# EAGLE library part NE555 (library andereBauteile)
NE555 Timerbaustein
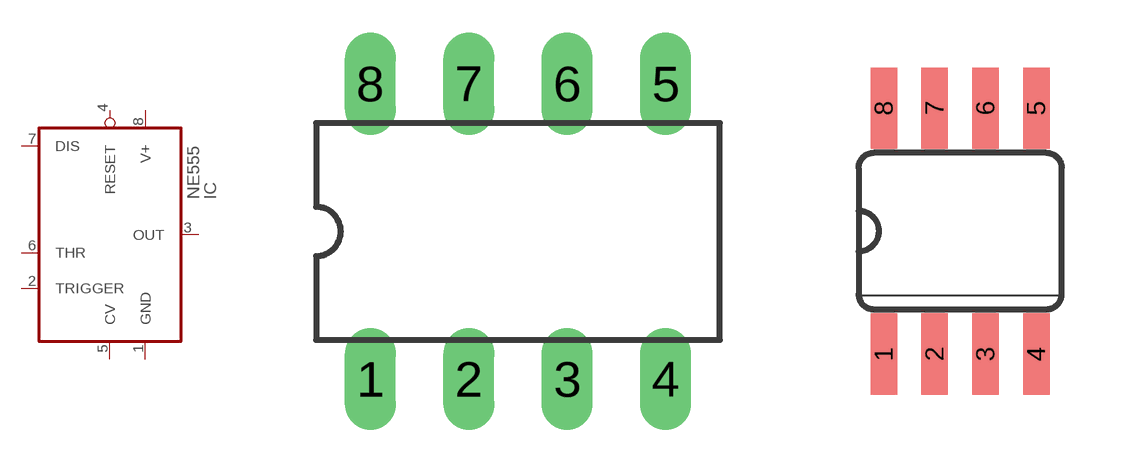
[diagram p6: symbol with the pads of DIL08; footprints DIL08, SO08]

Designator prefix IC

## NE555  [DIL08]
1  GND  pwr
2  TRIGGER  in
3  OUT  out
4  RESET  in
5  CV  in
6  THR  in
7  DIS  in
8  V+  pwr

## NE555D  [SO08]
Pads as for DIL08

## Footprint DIL08 (pad centres in mm)
drill 0.813 long: 1 -3.81,-3.81; 2 -1.27,-3.81; 3 1.27,-3.81; 4 3.81,-3.81; 5 3.81,3.81; 6 1.27,3.81; 7 -1.27,3.81; 8 -3.81,3.81

## Footprint SO08 (pad centres in mm)
smd 0.66 x 2.032: 1 -1.905,-3.073; 2 -0.635,-3.073; 3 0.635,-3.073; 4 1.905,-3.073; 5 1.905,3.073; 6 0.635,3.073; 7 -0.635,3.073; 8 -1.905,3.073